# Altium schematic symbol library CPG-02-SMT-B.SchLib: 1 symbol
Pins are listed as number, name and electrical type; pins without a type are passive.

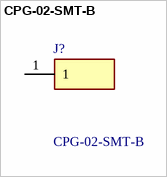
[diagram p0: symbol CPG-02-SMT-B]

## CPG-02-SMT-B
designator J?
50 gf Mid Compression Operating Force, 12 Vdc, 2 A, Spring Loaded, Gold Plated, Surface Mount, Pogo Pin; Manufacturer_Name: Same Sky; Geometry.Height: 8.15mm; Mouser Part Number: 179-CPG-02-SMT-B; Mouser Price/Stock: https://www.mouser.co.uk/ProductDetail/Same-Sky/CPG-02-SMT-B?qs=dbcCsuKDzFUx5AegzpF7Lw%3D%3D; Manufacturer_Part_Number: CPG-02-SMT-B; Datasheet Link: https://www.sameskydevices.com/product/resource/cpg-02-smt-b.pdf
footprint CPG02SMTB
pins: 1